# Altium footprint library 4x4VC.PcbLib: 1 footprints
Each footprint in its own frame and in the unit in brackets; x right, y up, seen from the top. Pads: shape width x height; smd on the part's side, far side on the other; paste and mask are expansions set on the pad; w line width, h text height; cw(c..) or ccw(c..) is an arc to the next point about the centre after c.
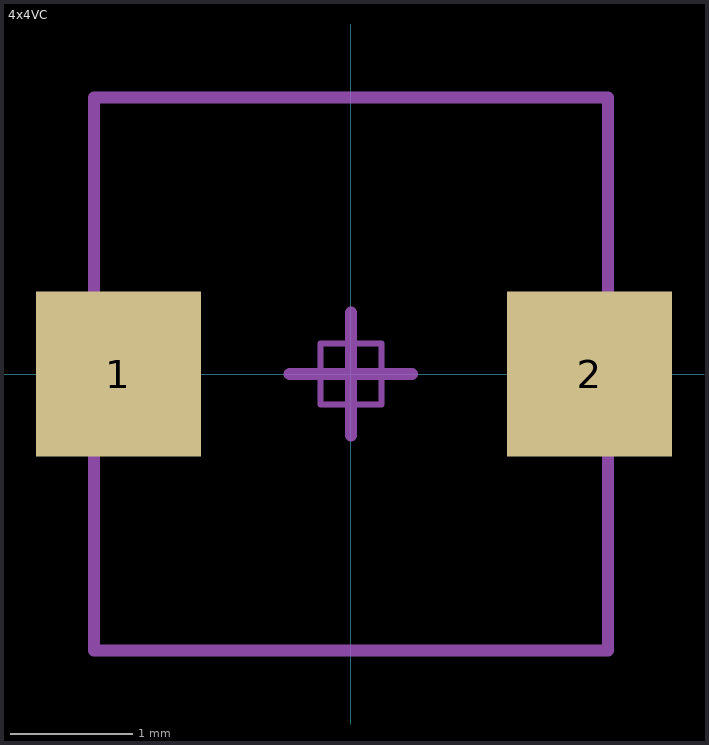
[diagram p0: the footprint, top view; thin cyan lines are the x and y axes]

## 4x4VC [mm] "DFN, 2-Leads, Body 4.50x4.00mm, Pitch 3.85mm, IPC Medium Density"
height 3.2
pads (2):
  rect 1.35x1.35 smd: 1(-1.9,0) 2(1.95,0)
Mechanical 13:
  lines w0.1: -2.1,-2.26 -2.1,2.26 2.1,2.26 2.1,-2.26 -2.1,-2.26
Mechanical 15:
  lines w0.05: -0.25,-0.25 -0.25,0.25 0.25,0.25 0.25,-0.25 -0.25,-0.25
  lines w0.1: -0.5,0 0.5,0 ; 0,-0.5 0,0.5
3D body: height 3.2, standoff 0, extent -2.1,-2.26 2.1,2.26